# EAGLE library part LM393D (library IDP_library)
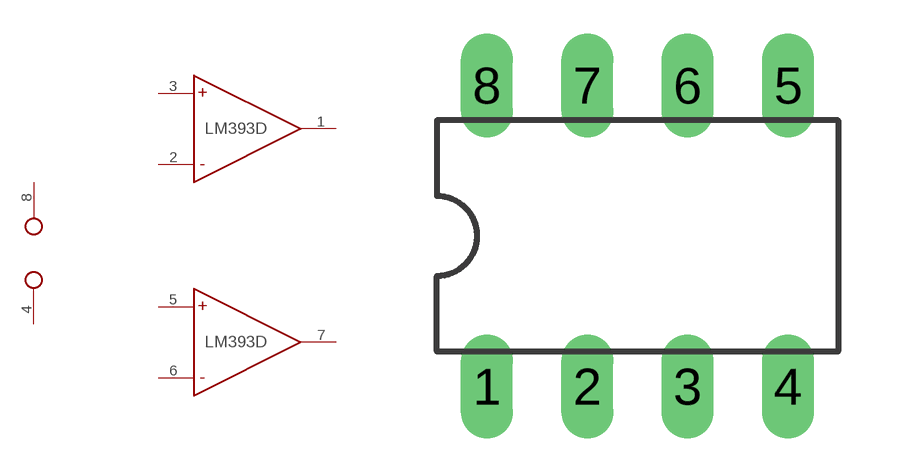
[diagram p19: symbol with the pads of DIL08; footprint DIL08]

Designator prefix -; gates G$1=PSUPLY G$2=LM393D G$3=LM393D

## LM393DA  [DIL08]
1  G$2:OUT  out
2  G$2:IN-  in
3  G$2:IN+  in
4  G$1:GND  pwr
5  G$3:IN+  in
6  G$3:IN-  in
7  G$3:OUT  out
8  G$1:VCC  pwr

## Footprint DIL08 (pad centres in mm)
Dual In Line Package
drill 0.813 long: 1 -3.81,-3.81; 2 -1.27,-3.81; 3 1.27,-3.81; 4 3.81,-3.81; 5 3.81,3.81; 6 1.27,3.81; 7 -1.27,3.81; 8 -3.81,3.81